# Altium footprint library Vreg.PcbLib: 5 footprints
Each footprint in its own frame and in the unit in brackets; x right, y up, seen from the top. Pads: shape width x height; smd on the part's side, far side on the other; paste and mask are expansions set on the pad; w line width, h text height; cw(c..) or ccw(c..) is an arc to the next point about the centre after c.
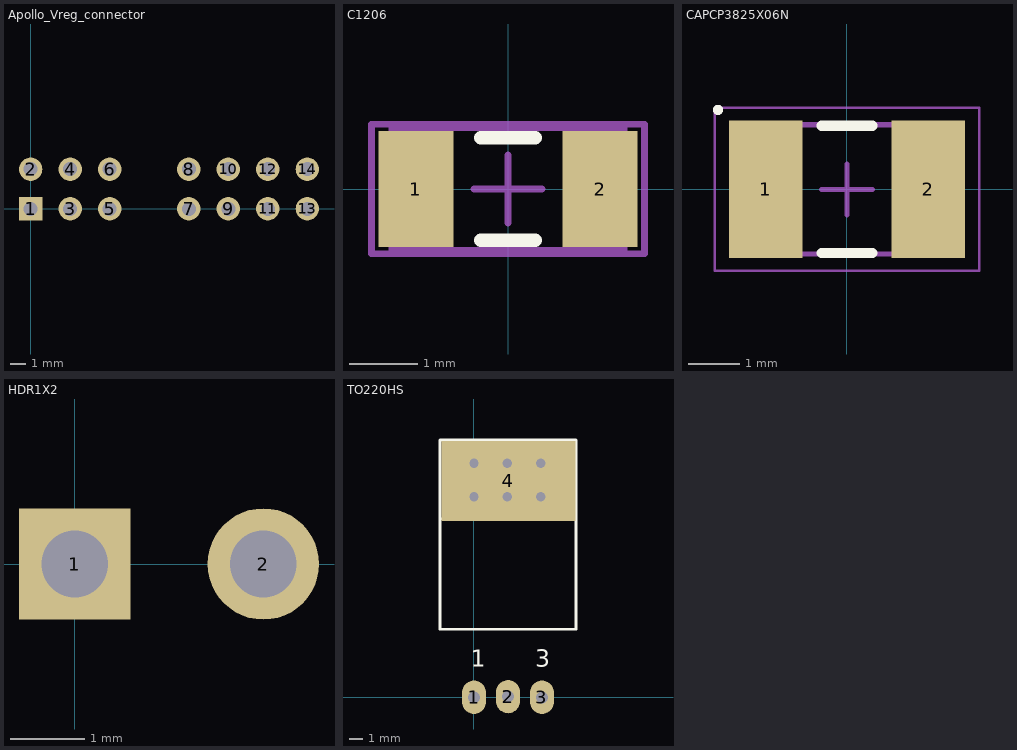
[diagram p0: the footprints below, top view; thin cyan lines are the x and y axes]

## Apollo_Vreg_connector [mm] "Connector; Header; 8x2 Position"
pads (14):
  rect 1.5x1.5 hole 0.9: 1(0,0)
  round 1.5 hole 0.9: 2(0,2.54) 3(2.54,0) 4(2.54,2.54) 5(5.08,0) 6(5.08,2.54) 7(10.16,0) 8(10.16,2.54) 9(12.7,0) 10(12.7,2.54) 11(15.24,0) 12(15.24,2.54) 13(17.78,0) 14(17.78,2.54)

## C1206 [mm] "Chip Capacitor, Body 3.2x1.6mm, IPC High Density"
height 1.3
pads (2):
  rect 1.1x1.7 smd: 1(-1.35,0) 2(1.35,0)
Top Overlay:
  lines w0.2: -0.4,-0.75 0.4,-0.75 ; -0.4,0.75 0.4,0.75
Mechanical 13:
  lines w0.1: -1.7,-0.9 1.7,-0.9 1.7,0.9 -1.7,0.9 -1.7,-0.9
Mechanical 15:
  lines w0.1: -0.5,0 0.5,0 ; 0,-0.5 0,0.5 ; -2,-0.95 2,-0.95 2,0.95 -2,0.95 -2,-0.95
3D body: height 1.3, standoff 0, extent -1.7,-0.9 1.7,0.9

## CAPCP3825X06N [mm] "Chip Capacitor, 2-Leads, Body 3,81x2,54mm, IPC Medium Density"
height 0.6
pads (2):
  rect 1.45x2.7 smd: 1(-1.6,0) 2(1.6,0)
Top Overlay:
  circle w0.1: c-2.537,1.562 r0.05
  lines w0.2: -0.5,-1.25 0.5,-1.25 ; -0.5,1.25 0.5,1.25
Mechanical 13:
  lines w0.1: -1.905,-1.27 -1.905,1.27 1.905,1.27 1.905,-1.27 -1.905,-1.27
Mechanical 15:
  lines w0.05: -2.6,-1.6 -2.6,1.6 2.6,1.6 2.6,-1.6 -2.6,-1.6
  lines w0.1: -0.5,0 0.5,0 ; 0,-0.5 0,0.5
3D body: height 0.6, standoff 0, extent -1.005,-1.27 1.005,1.27
3D body: height 0.6, standoff 0, extent -1.905,-1.27 -1.005,1.27
3D body: height 0.6, standoff 0, extent 1.005,-1.27 1.905,1.27

## HDR1X2 [mm] "Connector; Header; 2 Position"
pads (2):
  rect 1.5x1.5 hole 0.9: 1(0,0)
  round 1.5 hole 0.9: 2(2.54,0)

## TO220HS [mm]
pads (4):
  oval 1.8x2.5 hole 0.9: 1(0.003,-0.001) 2(2.55,0.05) 3(5.083,-0.001)
  rect 10x6 smd: 4(2.575,16.175)
via 0,17.5 diameter 1.27 hole 0.7
via 2.5,17.5 diameter 1.27 hole 0.7
via 5,17.5 diameter 1.27 hole 0.7
via 5,15 diameter 1.27 hole 0.7
via 2.5,15 diameter 1.27 hole 0.7
via 0,15 diameter 1.27 hole 0.7
Top Overlay:
  lines w0.2: -2.537,19.225 -2.537,17.567 -2.537,5.079 7.623,5.079 7.623,15.027 7.623,17.567 7.623,19.225 -2.5,19.225 ; -2.51,13.35 7.62,13.35
  text "1" at -0.254,2.286 h1.27
  text "3" at 4.572,2.286 h1.27
3D body "SW3DPS-TO-220-DEFAULT.STEP": height 4.3, standoff -2.9, extent -2.5,-0.32 7.66,19.17